# EAGLE library part MC10171 (library ecl)
Dual BINARY To 1-4 Decoder (Low)
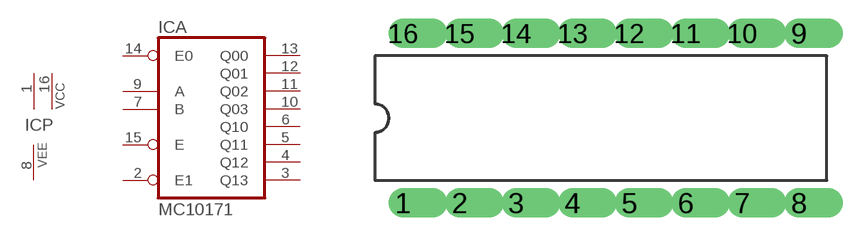
[diagram p16: symbol with the pads of DIL16; footprint DIL16]

Designator prefix IC; gates A=MC10171 P=2VCC1VEE

## MC10171  [DIL16]
1  P:VCC  pwr
2  A:E1  in
3  A:Q13  out
4  A:Q12  out
5  A:Q11  out
6  A:Q10  out
7  A:B  in
8  P:VEE  pwr
9  A:A  in
10  A:Q03  out
11  A:Q02  out
12  A:Q01  out
13  A:Q00  out
14  A:E0  in
15  A:E  in
16  P:VCC  pwr

## Footprint DIL16 (pad centres in mm)
drill 0.813 offset: 1 -8.89,-3.81; 2 -6.35,-3.81; 3 -3.81,-3.81; 4 -1.27,-3.81; 5 1.27,-3.81; 6 3.81,-3.81; 7 6.35,-3.81; 8 8.89,-3.81; 9 8.89,3.81; 10 6.35,3.81; 11 3.81,3.81; 12 1.27,3.81; 13 -1.27,3.81; 14 -3.81,3.81; 15 -6.35,3.81; 16 -8.89,3.81